# Altium footprint library 640454-2.PcbLib: 1 footprints
Each footprint in its own frame and in the unit in brackets; x right, y up, seen from the top. Pads: shape width x height; smd on the part's side, far side on the other; paste and mask are expansions set on the pad; w line width, h text height; cw(c..) or ccw(c..) is an arc to the next point about the centre after c.
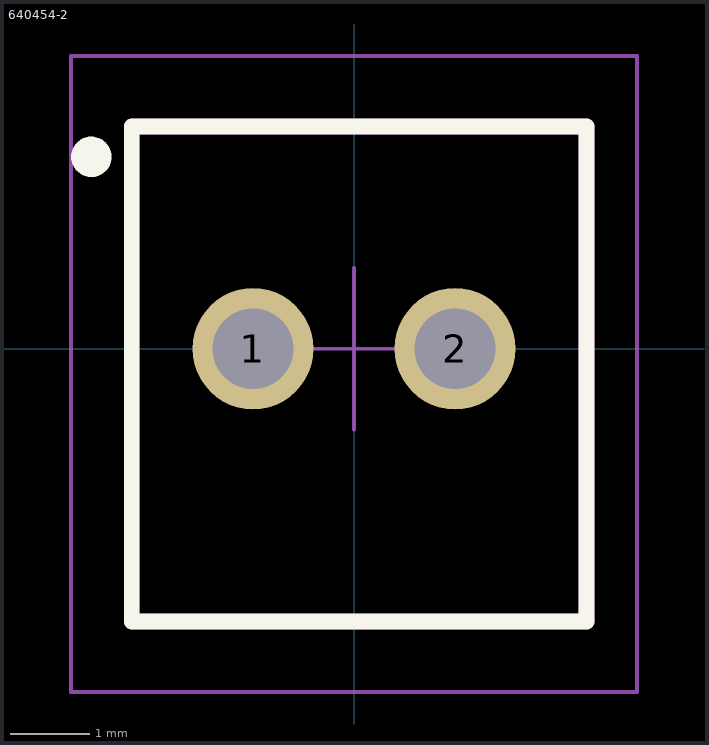
[diagram p0: the footprint, top view; thin cyan lines are the x and y axes]

## 640454-2 [mil]
pads (2):
  round 60 hole 40: 1(-50,0) 2(50,0)
Top Overlay:
  circle w10: c-130,95 r5
  lines w7.87: -110,-135 115,-135 115,110 -110,110 -110,-135
Mechanical 15:
  lines w1.97: -40,0 40,0 ; 0,-40 0,40 ; -140,-170 140,-170 140,145 -140,145 -140,-170
Mechanical 17:
  lines w7.87: -110,-135 -110,110 115,110 115,-135 -110,-135
  text ".Designator" at -90,-40 h30
Mechanical 19:
  lines w7.87: -110,-135 115,-135 115,110 -110,110 -110,-135
  text ".Comment" at -85,-35 h30
3D body: height 394.88, standoff -140.16, extent -100.01,-125.2 99.99,99.99